# Altium schematic symbol library THS4551IDGKT.SchLib: 1 symbol
Pins are listed as number, name and electrical type; pins without a type are passive.

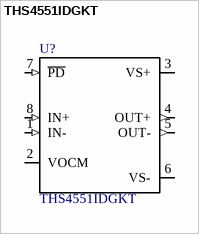
[diagram p0: symbol THS4551IDGKT]

## THS4551IDGKT
designator U?
Differential Amplifier 1 Circuit Rail-to-Rail 8-VSSOP; MF: Texas Instruments; Package: MSOP-8 Texas Instruments; Digi-Key_Purchase_URL: https://www.digikey.com/product-detail/en/texas-instruments/THS4551IDGKT/296-44771-1-ND/6198697?utm_source=snapeda&utm_medium=aggregator&utm_campaign=symbol; Digi-Key_Part_Number: 296-44771-1-ND; SnapEDA_Link: https://www.snapeda.com/parts/THS4551IDGKT/Texas%20Instruments/view-part/649050/?ref=snap; MP: THS4551IDGKT; Value: *
footprint 8-VSSOP-THS4551
pins: 1 IN- (in), 2 VOCM (power), 3 VS+ (power), 4 OUT+ (out), 5 OUT- (out), 6 VS- (power), 7 ~{PD} (in), 8 IN+ (in)